# EAGLE library part HF78?S (library DB37-analog)
SUB-D
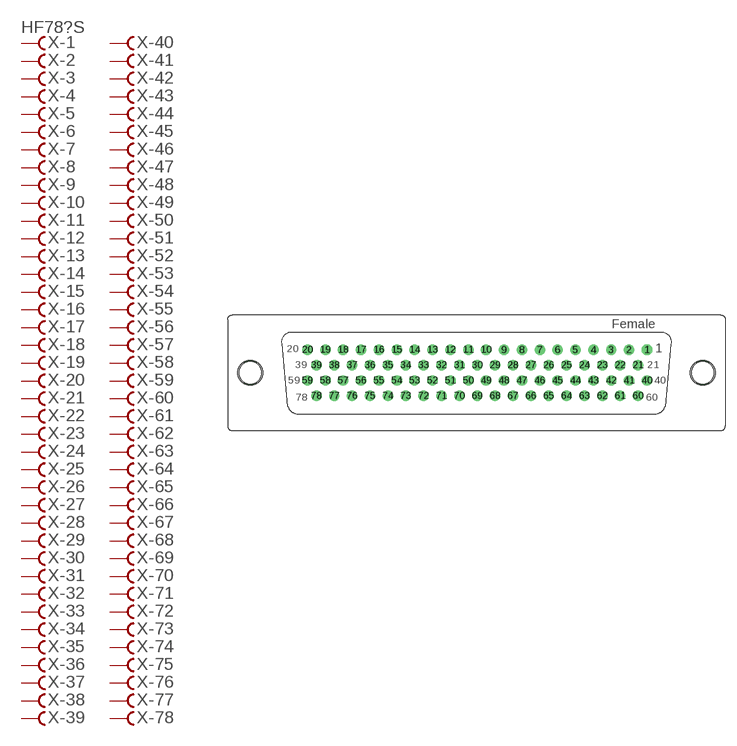
[diagram p32: symbol with the pads of HDF78V; footprint HDF78V]

Designator prefix X; gates -1=FV -2=F -3=F -4=F -5=F -6=F -7=F -8=F -9=F -10=F -11=F -12=F -13=F -14=F -15=F -16=F -17=F -18=F -19=F -20=F -21=F -22=F -23=F -24=F -25=F -26=F -27=F -28=F -29=F -30=F -31=F -32=F -33=F -34=F -35=F -36=F -37=F -38=F -39=F -40=F -41=F -42=F -43=F -44=F -45=F -46=F -47=F -48=F -49=F -50=F -51=F -52=F -53=F -54=F -55=F -56=F -57=F -58=F -59=F -60=F -61=F -62=F -63=F -64=F -65=F -66=F -67=F -68=F -69=F -70=F -71=F -72=F -73=F -74=F -75=F -76=F -77=F -78=F

## HF78VS (OC_FARNELL: unknown; OC_NEWARK: unknown)  [HDF78V]
1  -1:F  pas
2  -2:F  pas
3  -3:F  pas
4  -4:F  pas
5  -5:F  pas
6  -6:F  pas
7  -7:F  pas
8  -8:F  pas
9  -9:F  pas
10  -10:F  pas
11  -11:F  pas
12  -12:F  pas
13  -13:F  pas
14  -14:F  pas
15  -15:F  pas
16  -16:F  pas
17  -17:F  pas
18  -18:F  pas
19  -19:F  pas
20  -20:F  pas
21  -21:F  pas
22  -22:F  pas
23  -23:F  pas
24  -24:F  pas
25  -25:F  pas
26  -26:F  pas
27  -27:F  pas
28  -28:F  pas
29  -29:F  pas
30  -30:F  pas
31  -31:F  pas
32  -32:F  pas
33  -33:F  pas
34  -34:F  pas
35  -35:F  pas
36  -36:F  pas
37  -37:F  pas
38  -38:F  pas
39  -39:F  pas
40  -40:F  pas
41  -41:F  pas
42  -42:F  pas
43  -43:F  pas
44  -44:F  pas
45  -45:F  pas
46  -46:F  pas
47  -47:F  pas
48  -48:F  pas
49  -49:F  pas
50  -50:F  pas
51  -51:F  pas
52  -52:F  pas
53  -53:F  pas
54  -54:F  pas
55  -55:F  pas
56  -56:F  pas
57  -57:F  pas
58  -58:F  pas
59  -59:F  pas
60  -60:F  pas
61  -61:F  pas
62  -62:F  pas
63  -63:F  pas
64  -64:F  pas
65  -65:F  pas
66  -66:F  pas
67  -67:F  pas
68  -68:F  pas
69  -69:F  pas
70  -70:F  pas
71  -71:F  pas
72  -72:F  pas
73  -73:F  pas
74  -74:F  pas
75  -75:F  pas
76  -76:F  pas
77  -77:F  pas
78  -78:F  pas

## Footprint HDF78V (pad centres in mm)
SUB-D
drill 0.9 octagon: 1 23.024,3.12
drill 0.9: 2 20.611,3.12; 3 18.198,3.12; 4 15.785,3.12; 5 13.372,3.12; 6 10.959,3.12; 7 8.546,3.12; 8 6.133,3.12; 9 3.72,3.12; 10 1.307,3.12; 11 -1.106,3.12; 12 -3.519,3.12; 13 -5.932,3.12; 14 -8.345,3.12; 15 -10.758,3.12; 16 -13.171,3.12; 17 -15.584,3.12; 18 -17.997,3.12; 19 -20.41,3.12; 20 -22.823,3.12; 21 21.817,1.04; 22 19.404,1.04; 23 16.991,1.04; 24 14.578,1.04; 25 12.165,1.04; 26 9.752,1.04; 27 7.339,1.04; 28 4.926,1.04; 29 2.513,1.04; 30 0.1,1.04; 31 -2.313,1.04; 32 -4.726,1.04; 33 -7.139,1.04; 34 -9.552,1.04; 35 -11.965,1.04; 36 -14.378,1.04; 37 -16.791,1.04; 38 -19.204,1.04; 39 -21.617,1.04; 40 23.024,-1.04; 41 20.611,-1.04; 42 18.198,-1.04; 43 15.785,-1.04; 44 13.372,-1.04; 45 10.959,-1.04; 46 8.546,-1.04; 47 6.133,-1.04; 48 3.72,-1.04; 49 1.307,-1.04; 50 -1.106,-1.04; 51 -3.519,-1.04; 52 -5.932,-1.04; 53 -8.345,-1.04; 54 -10.758,-1.04; 55 -13.171,-1.04; 56 -15.584,-1.04; 57 -17.997,-1.04; 58 -20.41,-1.04; 59 -22.823,-1.04; 60 21.817,-3.12; 61 19.404,-3.12; 62 16.991,-3.12; 63 14.578,-3.12; 64 12.165,-3.12; 65 9.752,-3.12; 66 7.339,-3.12; 67 4.926,-3.12; 68 2.513,-3.12; 69 0.1,-3.12; 70 -2.313,-3.12; 71 -4.726,-3.12; 72 -7.139,-3.12; 73 -9.552,-3.12; 74 -11.965,-3.12; 75 -14.378,-3.12; 76 -16.791,-3.12; 77 -19.204,-3.12; 78 -21.617,-3.12
hole 3 at -30.55,0
hole 3 at 30.55,0